# Altium footprint library Rainette.PcbLib: 16 footprints
Each footprint in its own frame and in the unit in brackets; x right, y up, seen from the top. Pads: shape width x height; smd on the part's side, far side on the other; paste and mask are expansions set on the pad; w line width, h text height; cw(c..) or ccw(c..) is an arc to the next point about the centre after c.
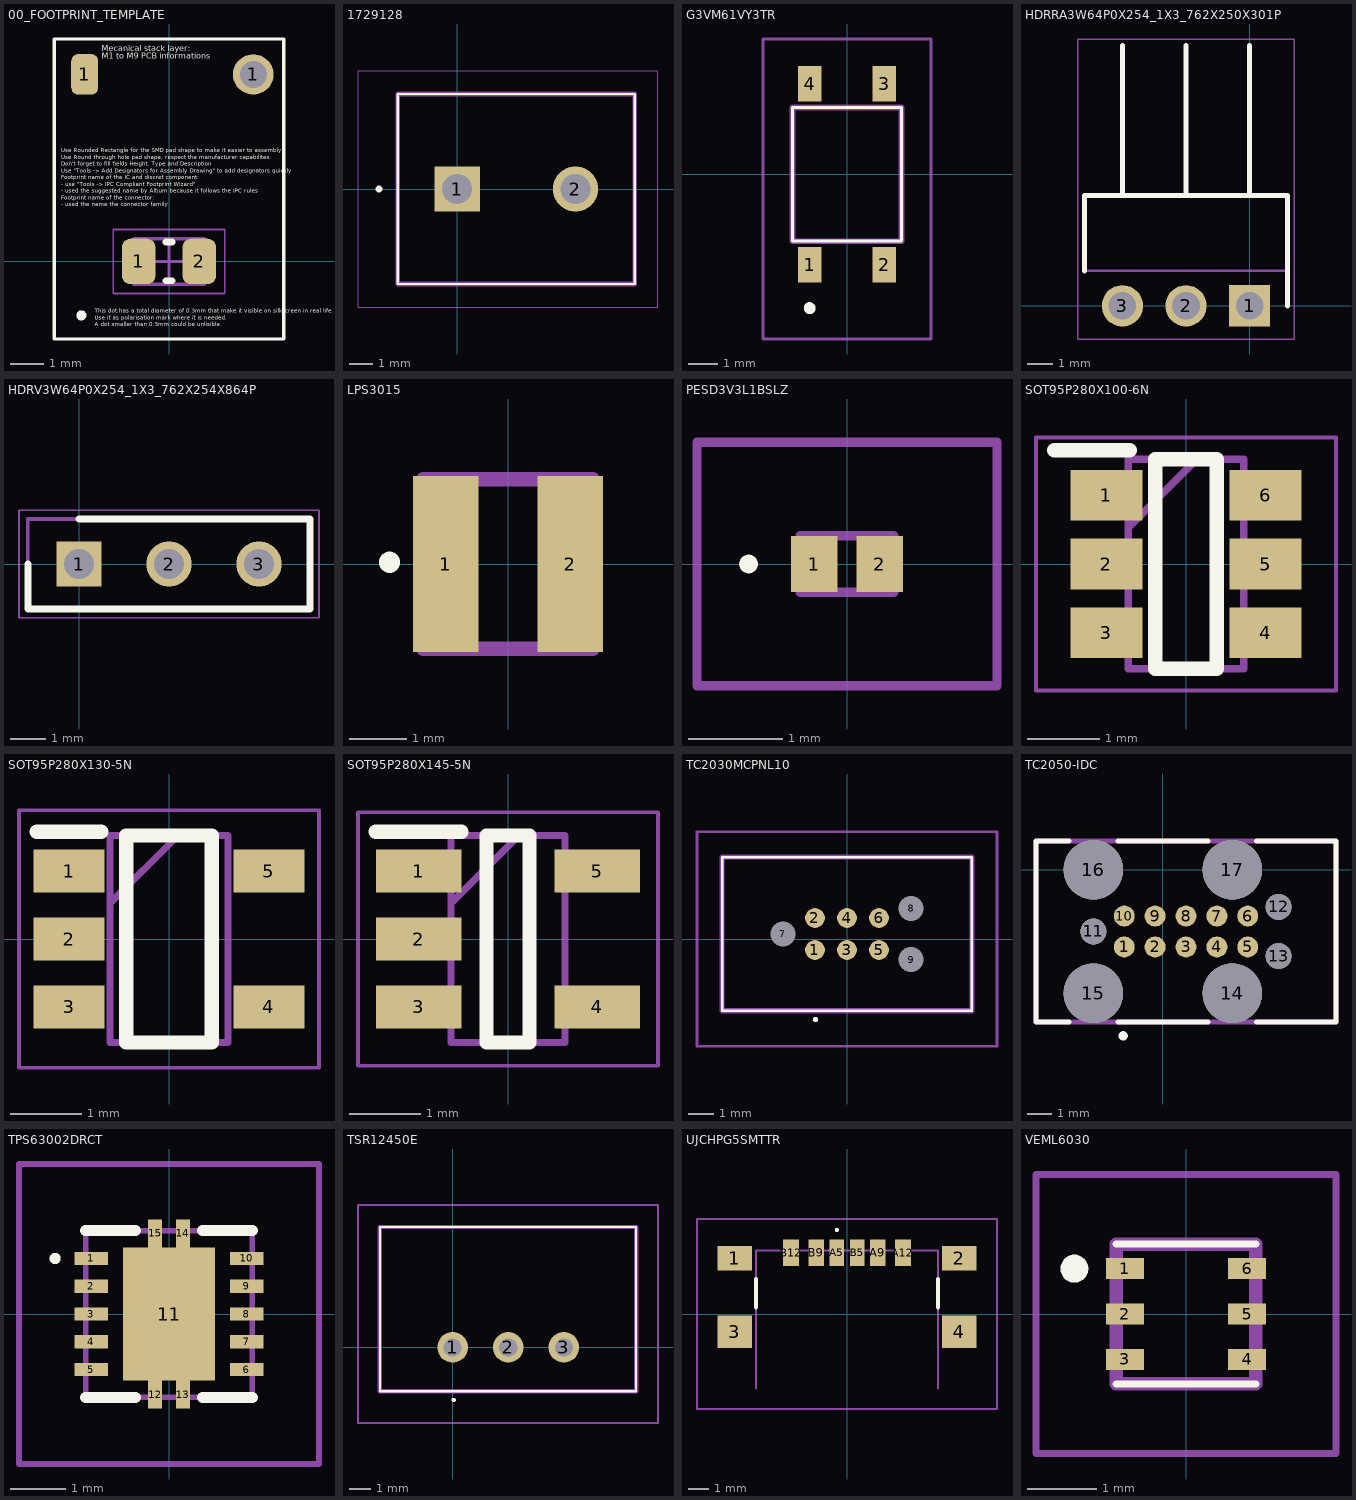
[diagram p0: the footprints below, top view; thin cyan lines are the x and y axes]

## 00_FOOTPRINT_TEMPLATE [mm] "Template component"
pads (4):
  rrect50% 0.8x1.2 smd: 1(-2.5,5.55)
  rrect50% 1x1.35 smd: 1(-0.9,0) 2(0.9,0)
  round 1.2 hole 0.8: 1(2.5,5.55)
Top Layer:
  text "Example RESC2012X05N :" at -3.2,1.017 h0.2
Top Overlay:
  circle w0.2: c-2.6,-1.6 r0.05
  lines w0.1: -3.4,-2.3 -3.4,6.6 3.4,6.6 3.4,-2.3 -3.4,-2.3
  lines w0.2: -0.1,-0.575 0.1,-0.575 ; -0.1,0.575 0.1,0.575
  text "This dot has a total diameter of 0.3mm that make it visible on silkscreen in real life. / Use it as polarisation mark where it is needed. / A dot smaller than 0.3mm could be unlisible." at -2.2,-1.971 h0.2
  text "Mecanical stack layer:" at -2,6.176 h0.3
  text "M1 to M9 PCB informations" at -2,5.951 h0.3
  text "Use Rounded Rectangle for the SMD pad shape to make it easier to assembly / Use Round through hole pad shape, respect the manufacturer capabilites / Don't forget to fill fields Height, Type and Description / Use \"Tools -> Add Designators for Assembly Drawing\" to add designators quickly / Footprint name of the IC and discret component: / - use \"Tools -> IPC Compliant Footprint Wizard\" / - used the suggested name by Altium because it follows the IPC rules / Footprint name of the connector: / - used the name the connector family" at -3.2,1.591 h0.2
Route Tool Path:
  text "M10 Rout Tool Path" at -2,5.701 h0.3
Top Assembly:
  lines w0.1: -1.05,-0.675 -1.05,0.675 1.05,0.675 1.05,-0.675 -1.05,-0.675
  text "M11 Top Assembly" at -2,5.425 h0.3
Bottom Assembly (Mech12):
  text "M12 Bottom Assembly" at -2,5.175 h0.3
Top 3D Body:
  text "M13 Top 3D Body" at -2,4.925 h0.3
Bottom 3D Body:
  text "M14 Bottom 3D Body" at -2,4.675 h0.3
Top Courtyard:
  lines w0.05: -1.65,-0.95 -1.65,0.95 1.65,0.95 1.65,-0.95 -1.65,-0.95
  lines w0.1: -0.5,0 0.5,0 ; 0,-0.5 0,0.5
  text "M15 Top Courtyard" at -2,4.424 h0.3
Bottom Courtyard:
  text "M16 Bottom Courtyard" at -2,4.174 h0.3
Top Designator:
  text "M17 Top Designator" at -2,3.925 h0.3
  text ".Designator" at -2.704,-0.271 h1.2
Bottom Designator:
  text "M18 Bottom Designator" at -2,3.675 h0.3
3D body "RESC2012X05N.step": height 0.5, standoff 0, extent -1.05,-0.675 1.05,0.675

## 1729128 [mm]
pads (2):
  rect 1.95x1.95 hole 1.3: 1(0,0)
  round 1.95 hole 1.3: 2(5.08,0)
Top Overlay:
  circle w0.2: c-3.35,0 r0.05
  lines w0.1: -2.54,-4.075 7.62,-4.075 7.62,4.075 -2.54,4.075 -2.54,-4.075
Top 3D Body:
  lines w0.2: -2.54,-4.075 7.62,-4.075 7.62,4.075 -2.54,4.075 -2.54,-4.075
Top Courtyard:
  lines w0.05: -4.25,-5.075 8.62,-5.075 8.62,5.075 -4.25,5.075 -4.25,-5.075
3D body "1729128.stp": height 10.32, standoff -3.18, extent -2.82,-4.05 7.74,4.05

## G3VM61VY3TR [mm]
pads (4):
  rect 0.8x1.2 smd: 1(-1.27,-3.075) 2(1.27,-3.075) 3(1.27,3.075) 4(-1.27,3.075)
Top Overlay:
  lines w0.1: -1.85,-2.275 -1.85,2.275 1.85,2.275 1.85,-2.275 -1.85,-2.275
  lines w0.3: -1.27,-4.6 ccw(c-1.27,-4.55) -1.27,-4.5 ccw(c-1.27,-4.55) -1.27,-4.6
Top 3D Body:
  lines w0.2: -1.85,-2.275 -1.85,2.275 1.85,2.275 1.85,-2.275 -1.85,-2.275
Top Courtyard:
  lines w0.1: -2.85,-5.6 -2.85,4.6 2.85,4.6 2.85,-5.6 -2.85,-5.6
3D body "G3VM-61VY3_TR_.stp": height 2.18, standoff 0.01, extent -1.85,-3.5 1.85,3.5

## HDRRA3W64P0X254_1X3_762X250X301P [mm]
pads (3):
  rect 1.65x1.65 hole 1.1: 1(0,0)
  round 1.65 hole 1.1: 2(-2.54,0) 3(-5.08,0)
Top Overlay:
  lines w0.2: -6.604,1.4 -6.604,4.408 1.524,4.408 1.524,0 ; -5.08,4.408 -5.08,10.408 ; -2.54,4.408 -2.54,10.408 ; 0,4.408 0,10.408
Top 3D Body:
  lines w0.1: -6.604,1.4 -6.604,4.408 1.524,4.408 1.524,1.4 -6.604,1.4
Top Courtyard:
  lines w0.05: -6.854,-1.325 -6.854,10.658 1.774,10.658 1.774,-1.325 -6.854,-1.325
3D body "PH1RB-03-UA.stp": height 3.01, standoff -3.56, extent -6.604,-0.32 1.524,10.916

## HDRV3W64P0X254_1X3_762X254X864P [mm]
pads (3):
  rect 1.275x1.275 hole 0.85: 1(0,0)
  round 1.275 hole 0.85: 2(2.54,0) 3(5.08,0)
Top Overlay:
  lines w0.2: -1.445,0 -1.445,-1.27 6.525,-1.27 6.525,1.27 0,1.27
Top 3D Body:
  lines w0.1: -1.445,-1.27 6.525,-1.27 6.525,1.27 -1.445,1.27 -1.445,-1.27
Top Courtyard:
  lines w0.05: -1.695,-1.52 6.775,-1.52 6.775,1.52 -1.695,1.52 -1.695,-1.52
3D body "M20-9990345.stp": height 8.64, standoff -3, extent -1.27,-1.27 6.35,1.27

## LPS3015 [mm]
pads (2):
  rect 1.14x3.05 smd: 1(-1.08,0) 2(1.08,0)
Top Overlay:
  circle w0.254: c-2.057,0.03 r0.057
Top 3D Body:
  lines w0.254: -1.475,-1.475 -1.475,1.475 1.475,1.475 1.475,-1.475 -1.475,-1.475
3D body "LPS3015-222MRC.stp": height 1.5, standoff 0, extent -1.515,-1.515 1.515,1.515

## PESD3V3L1BSLZ [mm]
pads (2):
  rect 0.5x0.6 smd: 1(-0.35,0) 2(0.35,0)
Top Overlay:
  lines w0.1: -1.1,0 ccw(c-1.05,0) -1,0 ccw(c-1.05,0) -1.1,0
Top 3D Body:
  lines w0.1: -0.5,-0.3 -0.5,0.3 0.5,0.3 0.5,-0.3 -0.5,-0.3
Top Courtyard:
  lines w0.1: -1.6,-1.3 -1.6,1.3 1.6,1.3 1.6,-1.3 -1.6,-1.3
3D body "PESD3V3L1BSLZ.stp": height 0.35, standoff -0.06, extent -0.492,-0.305 0.508,0.295

## SOT95P280X100-6N [mm]
pads (6):
  rect 1x0.7 smd: 1(-1.1,0.95) 2(-1.1,0) 3(-1.1,-0.95) 4(1.1,-0.95) 5(1.1,0) 6(1.1,0.95)
Top Overlay:
  lines w0.2: -1.825,1.575 -0.775,1.575 ; -0.425,-1.45 0.425,-1.45 0.425,1.45 -0.425,1.45 -0.425,-1.45
Top 3D Body:
  lines w0.1: -0.8,0.5 0.15,1.45 ; -0.8,-1.45 0.8,-1.45 0.8,1.45 -0.8,1.45 -0.8,-1.45
Top Courtyard:
  lines w0.05: -2.075,-1.75 2.075,-1.75 2.075,1.75 -2.075,1.75 -2.075,-1.75
3D body "DMC3071LVT-13.stp": height 1, standoff 0, extent -1.4,-1.45 1.4,1.45

## SOT95P280X130-5N [mm]
pads (5):
  rect 1x0.6 smd: 1(-1.4,0.95) 2(-1.4,0) 3(-1.4,-0.95) 4(1.4,-0.95) 5(1.4,0.95)
Top Overlay:
  lines w0.2: -1.85,1.5 -0.95,1.5 ; -0.6,-1.45 -0.6,1.45 0.6,1.45 0.6,-1.45 -0.6,-1.45
Top 3D Body:
  lines w0.1: -0.825,0.5 0.125,1.45 ; -0.825,-1.45 -0.825,1.45 0.825,1.45 0.825,-1.45 -0.825,-1.45
Top Courtyard:
  lines w0.05: -2.1,-1.8 -2.1,1.8 2.1,1.8 2.1,-1.8 -2.1,-1.8
3D body "XC8102AA01MR-G.stp": height 1.3, standoff 0, extent -1.4,-1.45 1.4,1.45

## SOT95P280X145-5N [mm]
pads (5):
  rect 1.2x0.6 smd: 1(-1.25,0.95) 2(-1.25,0) 3(-1.25,-0.95) 4(1.25,-0.95) 5(1.25,0.95)
Top Overlay:
  lines w0.2: -1.85,1.5 -0.65,1.5 ; -0.3,-1.45 0.3,-1.45 0.3,1.45 -0.3,1.45 -0.3,-1.45
Top 3D Body:
  lines w0.1: -0.8,0.5 0.15,1.45 ; -0.8,-1.45 0.8,-1.45 0.8,1.45 -0.8,1.45 -0.8,-1.45
Top Courtyard:
  lines w0.05: -2.1,-1.775 2.1,-1.775 2.1,1.775 -2.1,1.775 -2.1,-1.775
3D body "TLV73333PQDBVRQ1.stp": height 1.2, standoff 0, extent -1.4,-1.45 1.4,1.45

## TC2030MCPNL10 [mm]
pads (9):
  round 0.787 smd: 1(-1.27,-0.434) 2(-1.27,0.836) 3(0,-0.434) 4(0,0.836) 5(1.27,-0.434) 6(1.27,0.836)
  round 0.495 hole 0.991 unplated: 7(-2.54,0.201) 8(2.54,1.217) 9(2.54,-0.815)
Top Overlay:
  lines w0.1: -4.953,-2.847 4.953,-2.847 4.953,3.249 -4.953,3.249 -4.953,-2.847 ; -1.3,-3.199 cw(c-1.25,-3.199) -1.2,-3.199 cw(c-1.25,-3.199) -1.3,-3.199
Top 3D Body:
  lines w0.2: -4.953,-2.847 4.953,-2.847 4.953,3.249 -4.953,3.249 -4.953,-2.847
Top Courtyard:
  lines w0.1: -5.953,-4.249 5.953,-4.249 5.953,4.249 -5.953,4.249 -5.953,-4.249

## TC2050-IDC [mil]
pads (17):
  round 34 smd: 1(-62.5,-125) 2(-12.5,-125) 3(37.5,-125) 4(87.5,-125) 5(137.5,-125) 6(137.5,-75) 7(87.5,-75) 8(37.5,-75) 9(-12.5,-75) 10(-62.5,-75)
  round 42 hole 42 unplated: 11(-112.5,-100) 12(187.5,-60.04) 13(187.5,-139.96)
  round 96.5 hole 96.5 unplated: 14(112.5,-200) 15(-112.5,-200) 16(-112.5,0) 17(112.5,0)
Top Overlay:
  circle w7.87: c-64.35,-268.98 r3.58
  lines w7.87: -151.75,-246.75 -205.41,-246.75 -205.41,46.75 -151.75,46.75 ; -72.93,-246.75 72.93,-246.75 ; -72.93,46.75 72.93,46.75 ; 151.59,-246.75 280.41,-246.75 280.41,46.75 151.59,46.75
Top 3D Body:
  lines w7.87: -205.41,-246.75 280.41,-246.75 280.41,46.75 -205.41,46.75 -205.41,-246.75

## TPS63002DRCT [mm]
pads (15):
  rect 0.6x0.24 smd: 1(-1.4,1) 2(-1.4,0.5) 3(-1.4,0) 4(-1.4,-0.5) 5(-1.4,-1) 6(1.4,-1) 7(1.4,-0.5) 8(1.4,0) 9(1.4,0.5) 10(1.4,1)
  rect 1.65x2.4 smd: 11(0,0)
  rect 0.25x0.5 smd: 12(-0.25,-1.45) 13(0.25,-1.45) 14(0.25,1.45) 15(-0.25,1.45)
Top Overlay:
  lines w0.1: -2.1,1 cw(c-2.05,1) -2,1 cw(c-2.05,1) -2.1,1
  lines w0.2: -1.5,-1.5 -0.6,-1.5 ; -1.5,1.5 -0.6,1.5 ; 0.6,-1.5 1.5,-1.5 ; 0.6,1.5 1.5,1.5
Top 3D Body:
  lines w0.1: -1.5,-1.5 1.5,-1.5 1.5,1.5 -1.5,1.5 -1.5,-1.5
Top Courtyard:
  lines w0.1: -2.7,-2.7 2.7,-2.7 2.7,2.7 -2.7,2.7 -2.7,-2.7
3D body "TPS63001DRC.stp": height 1.1, standoff 0, extent -1.5,-1.5 1.5,1.5

## TSR12450E [mm]
pads (3):
  round 1.4 hole 0.83: 1(0,0) 2(2.54,0) 3(5.08,0)
Top Overlay:
  lines w0.1: -3.32,-2 8.38,-2 8.38,5.5 -3.32,5.5 -3.32,-2 ; 0,-2.4 ccw(c0.05,-2.4) 0.1,-2.4 ccw(c0.05,-2.4) 0,-2.4
Top 3D Body:
  lines w0.2: -3.32,-2 8.38,-2 8.38,5.5 -3.32,5.5 -3.32,-2
Top Courtyard:
  lines w0.1: -4.32,-3.45 9.38,-3.45 9.38,6.5 -4.32,6.5 -4.32,-3.45
3D body "TSR_1-2450E.stp": height 10.1, standoff -4.2, extent -3.268,-1.827 8.332,5.673

## UJCHPG5SMTTR [mm]
pads (10):
  rect 1.7x1.2 smd: 1(-5.52,2.73) 2(5.52,2.73)
  rect 1.7x1.6 smd: 3(-5.52,-0.87) 4(5.52,-0.87)
  rect 0.7x1.3 smd: A5(-0.5,3.02) B5(0.5,3.02)
  rect 0.76x1.3 smd: A9(1.52,3.02) B9(-1.52,3.02)
  rect 0.8x1.3 smd: A12(2.75,3.02) B12(-2.75,3.02)
Top Overlay:
  lines w0.1: -0.5,4.08 ccw(c-0.5,4.13) -0.5,4.18 ccw(c-0.5,4.13) -0.5,4.08
  lines w0.2: -4.47,0.33 -4.47,1.73 ; 4.47,0.33 4.47,1.73
Top 3D Body:
  lines w0.1: -4.47,-3.67 -4.47,3.13 4.47,3.13 4.47,-3.67
Top Courtyard:
  lines w0.1: -7.37,-4.67 7.37,-4.67 7.37,4.67 -7.37,4.67 -7.37,-4.67
3D body "UJC-HP-G-5-SMT-TR.stp": height 3.16, standoff 0, extent -5.77,-3.57 5.77,3.57

## VEML6030 [mm]
pads (6):
  rect 0.55x0.3 smd: 1(-0.875,0.65) 2(-0.875,0) 3(-0.875,-0.65) 4(0.875,-0.65) 5(0.875,0) 6(0.875,0.65)
Top Overlay:
  lines w0.1: -1,-1 1,-1 ; -1,1 1,1
  lines w0.2: -1.7,0.65 ccw(c-1.6,0.65) -1.5,0.65 ccw(c-1.6,0.65) -1.7,0.65
Top 3D Body:
  lines w0.2: -1,-1 -1,1 1,1 1,-1 -1,-1
Top Courtyard:
  lines w0.1: -2.15,-2 -2.15,2 2.15,2 2.15,-2 -2.15,-2
3D body "VEML6030.stp": height 0.87, standoff 0, extent -1,-1 1,1